# EAGLE library part D-SUB-09H (library Projekt)
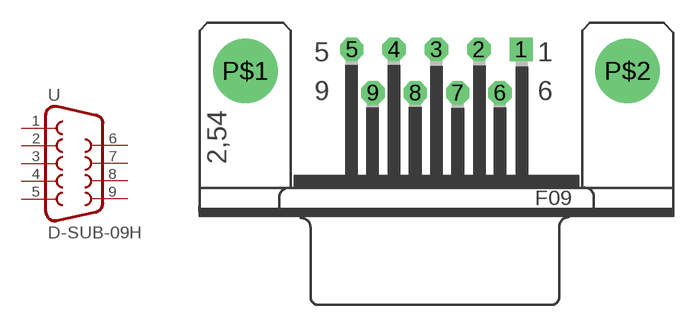
[diagram p22: symbol with the pads of F09-H1; footprint F09-H1]

Designator prefix -

## D-SUB-09H  [F09-H1]
1  1  pas
2  2  pas
3  3  pas
4  4  pas
5  5  pas
6  6  pas
7  7  pas
8  8  pas
9  9  pas

## Footprint F09-H1 (pad centres in mm)
SUB-D 9-pol
drill 1.016 square: 1 5.54,10.92
drill 1.016 octagon: 2 2.77,10.92; 3 0,10.92; 4 -2.77,10.92; 5 -5.54,10.92; 6 4.155,8.08; 7 1.385,8.08; 8 -1.385,8.08; 9 -4.155,8.08
drill 3.2 round: P$1 -12.495,9.5; P$2 12.495,9.5